# Altium footprint library logos.PcbLib: 7 footprints
Each footprint in its own frame and in the unit in brackets; x right, y up, seen from the top. Pads: shape width x height; smd on the part's side, far side on the other; paste and mask are expansions set on the pad; w line width, h text height; cw(c..) or ccw(c..) is an arc to the next point about the centre after c.
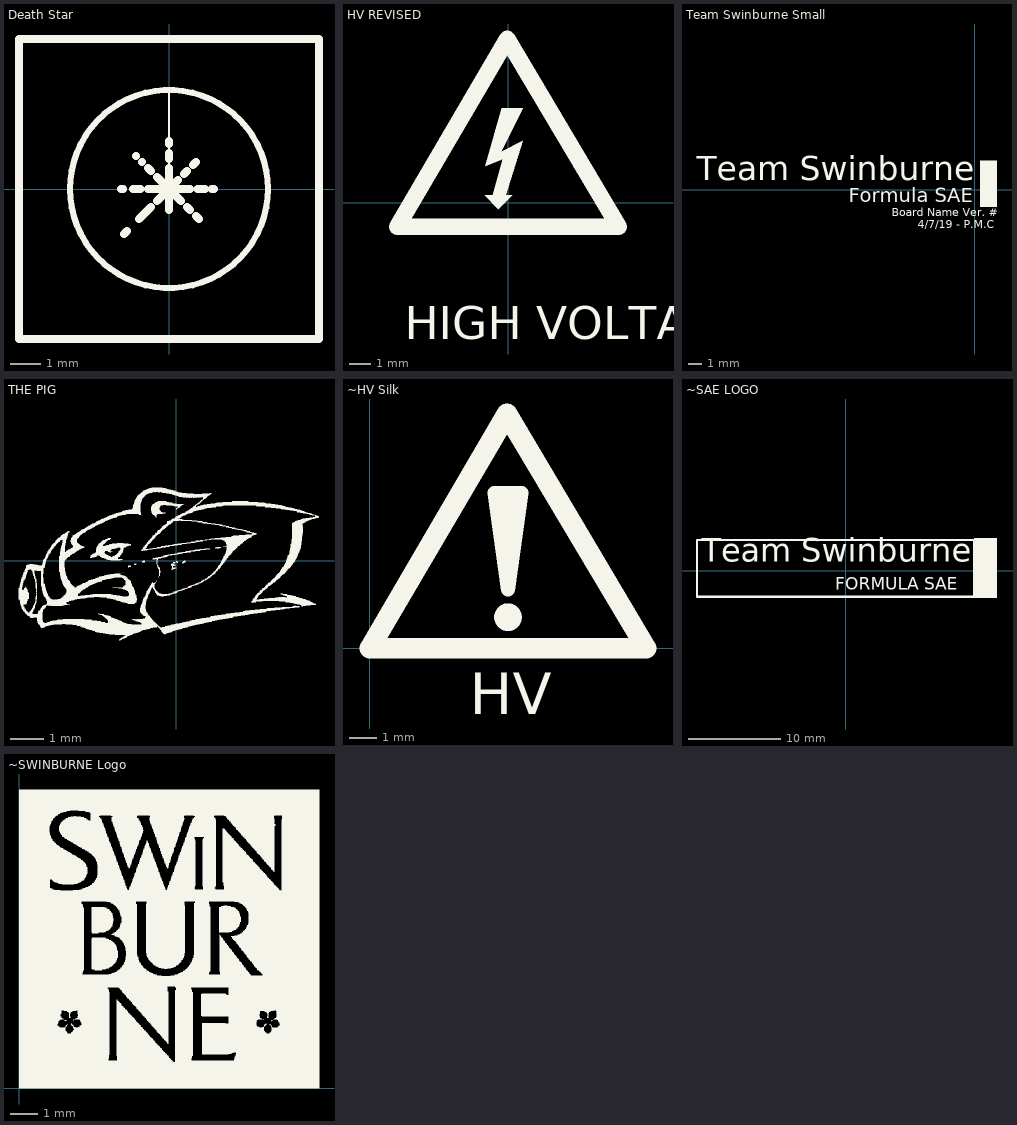
[diagram p0: the footprints below, top view; thin cyan lines are the x and y axes]

## Death Star [mm]
Top Overlay:
  circle w0.203: c0,0 r3.3
  lines w0.051: 0,0 0,3.3
  lines w0.254: -1.6,0 -1.525,0 ; -1.5,-1.5 -1.4,-1.4 ; -1.2,0 -0.95,0 ; -1,-1 -0.6,-0.6 ; -0.7,0 0,0 ; -0.7,0.7 -0.6,0.6 ; -0.4,-0.4 0,0 ; -0.4,0.4 0,0 ; 0,-0.7 0,0.7 ; 0,1 0,1.2 ; 0,1.5 0,1.6 ; 0.3,0.3 0,0 ; 0.4,-0.4 0,0 ; 0.5,0.5 0.6,0.6 ; 0.6,-0.6 0.7,-0.7 ; 0.7,0 0,0 ; 0.8,0.8 0.9,0.9 ; 0.9,-0.9 1,-1 ; 0.95,0 1.2,0 ; 1.425,0 1.5,0 ; -5,-5 5,-5 5,5 -5,5 -5,-5 ; -1.1,1.1 -1.1,1.1 ; -0.9,0.9 -0.9,0.9

## HV REVISED [mm]
Top Overlay:
  region: -0.298,4.333 -1.055,1.682 -0.25,2 -0.726,0.333 -1.083,0.333 -0.458,-0.292 0.167,0.333 -0.119,0.333 0.667,2.833 -0.333,2.333 0.667,4.333
  lines w0.762: -5.1,-1.1 5.06,-1.1 -0.056,7.509 -5.1,-1.1
  text "HIGH VOLTAGE" at -4.75,-6.25 h1.52
3D body: height 2, standoff -2.6, extent 0.75,5.25 0.75,5.25

## Team Swinburne Small [mm]
Top Overlay:
  rectangle: 0.381,-1.27 1.651,2.159
  text "Board Name Ver. #" at -6.114,-2.159 h1.02
  text "Team Swinburne" at -20.447,0.127 h3.05
  text "Formula SAE" at -9.271,-1.27 h1.78
  text "4/7/19 - P.M.C" at -4.178,-3.048 h1.02

## THE PIG [mm]
Top Overlay:
  drawing of 19 lines, arcs and shapes, not listed

## ~HV Silk [mm] "HV Symbol Silkscreen overlay"
Top Overlay:
  circle w0.508: c5.08,1.143 r0.254
  lines w0.508: 5.08,5.715 5.08,2.159 ; 5.08,2.159 5.588,5.715 4.572,5.715 5.08,2.159
  lines w0.762: 0,0 5.044,8.609 10.16,0 0,0
  text "HV" at 3.683,-2.413 h1.52

## ~SAE LOGO [mm] "SAE Scott Collins 556882x"
Top Overlay:
  rectangle: 13.926,-2.944 16.426,3.556
  lines w0.254: 13.926,3.352 -16.129,3.352 -16.129,-2.794 13.926,-2.794 13.926,3.356
  text "Team Swinburne" at -15.621,0.127 h4.32
  text "FORMULA SAE" at -1.143,-2.032 h1.35

## ~SWINBURNE Logo [mm] "By Swinburne TAFE David Smoors"
Top Overlay:
  drawing of 4 lines, arcs and shapes, not listed